# EAGLE library part SM-DLI05A (library bauteile)
SANMIM SM-DLI05A Dual Power Supply Module 5W 5V/500mA 12V/250mA http://www.sanmim.com/products_detail/productId=104.html
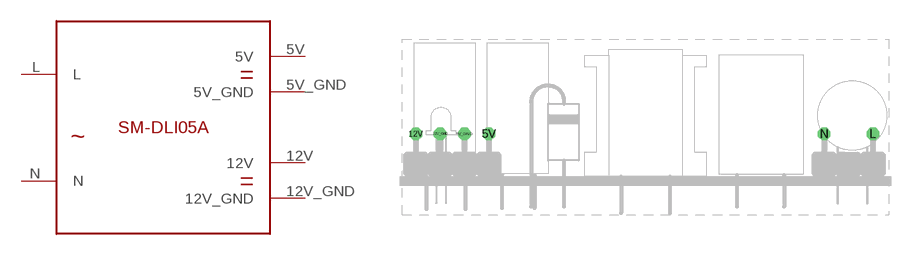
[diagram p1: symbol with the pads of SM-DLI05A; footprint SM-DLI05A]

Designator prefix -

## SM-DLI05A  [SM-DLI05A]
5V  5V
5V_GND  5V_GND
12V  12V
12V_GND  12V_GND
L  L
N  N

## Footprint SM-DLI05A (pad centres in mm)
drill 0.8 octagon: 5V -16.35,4.445; 5V_GND -18.89,4.445; 12V -23.97,4.445; 12V_GND -21.43,4.445; L 23.73,4.445; N 18.65,4.445